# Altium schematic symbol library SamacSys.SchLib: 215 symbols (part 3 of 3)
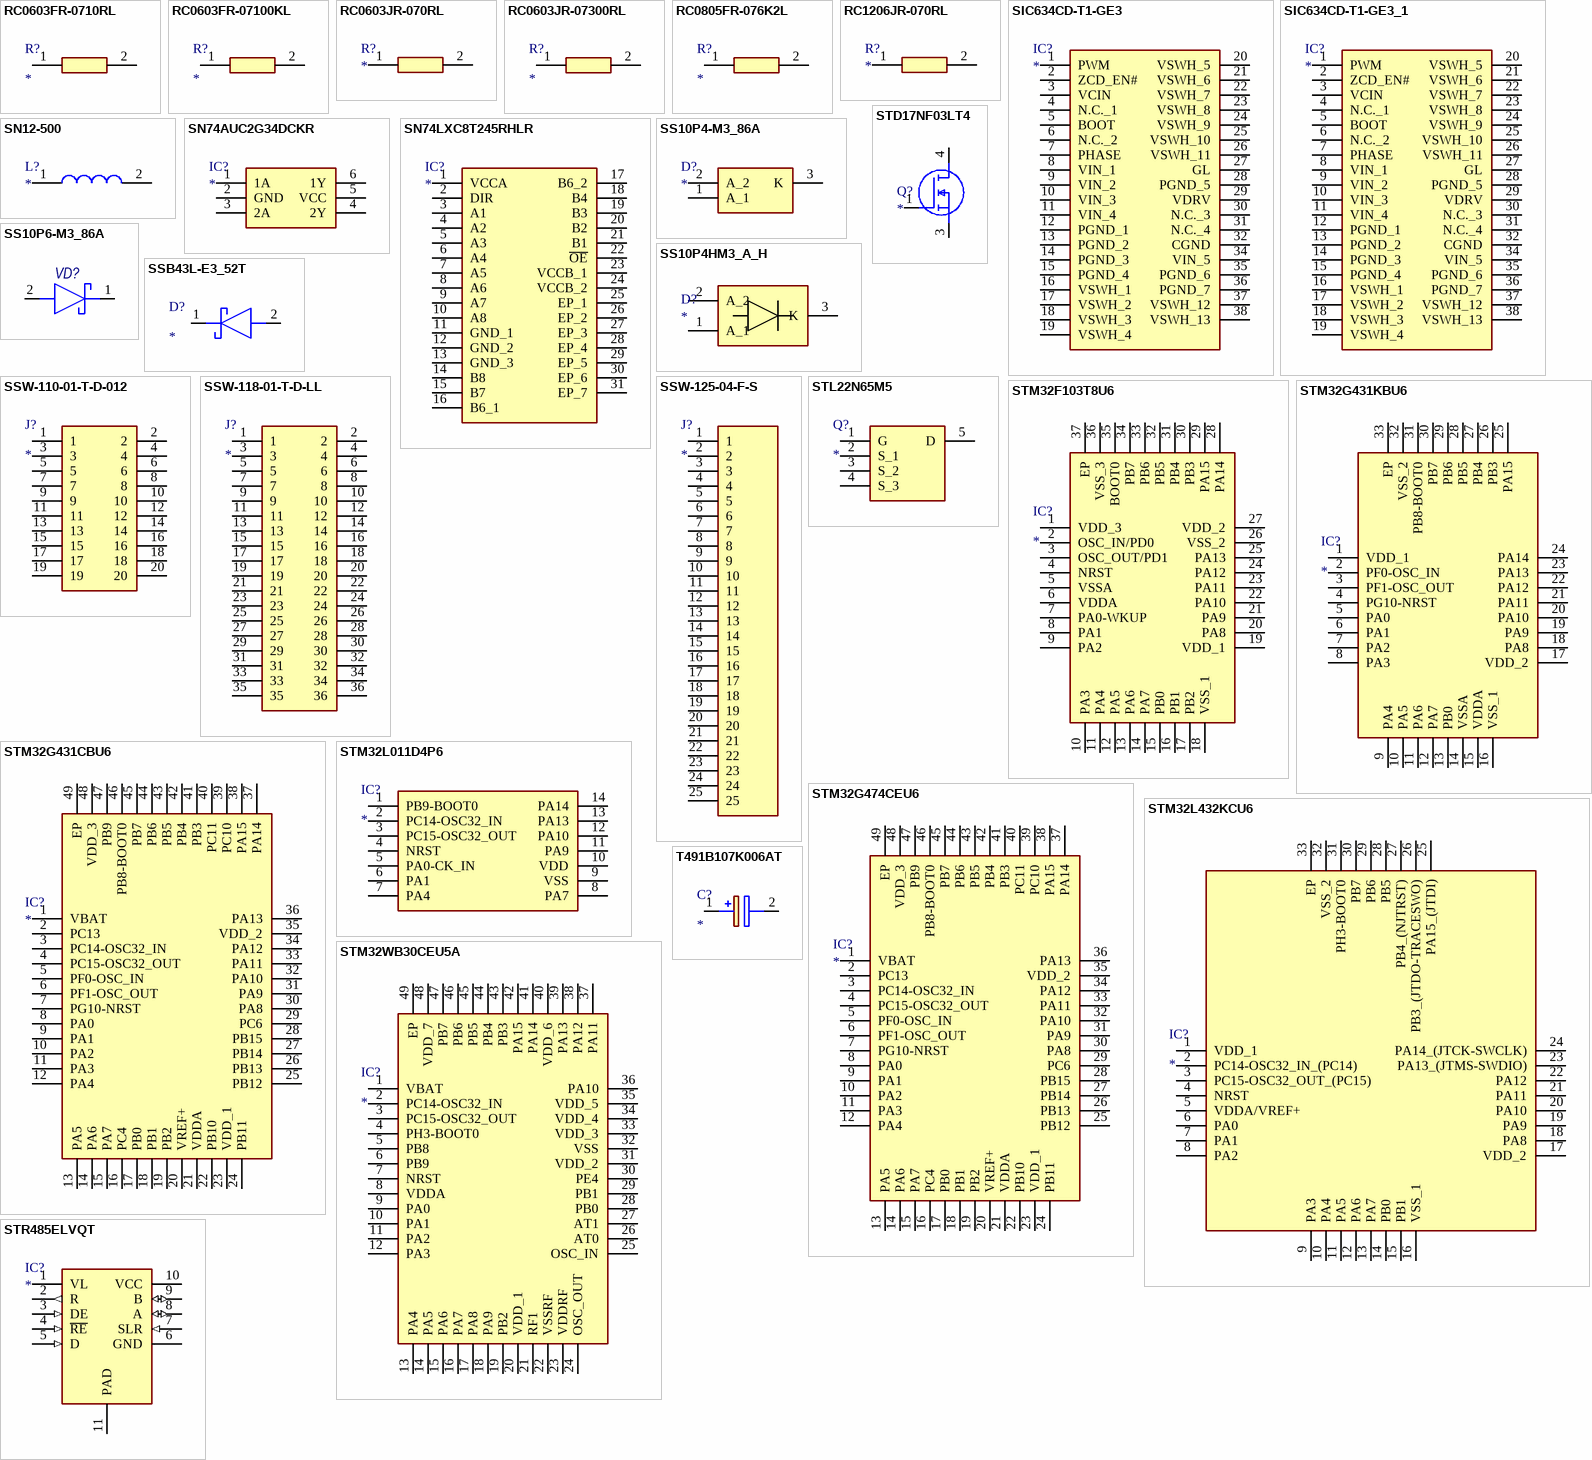
[diagram p7: symbols RC0603FR-0710RL to T491B107K006AT]

## STM32WB30CEU5A
designator IC?
Integrated Circuit; Manufacturer_Name: STMicroelectronics; Manufacturer_Part_Number: STM32WB30CEU5A; Datasheet Link: https://componentsearchengine.com/Datasheets/2/STM32WB30CEU5A.pdf; Height: 0.6mm; Mouser Part Number: 511-STM32WB30CEU5A; Mouser Price/Stock: https://www.mouser.co.uk/ProductDetail/STMicroelectronics/STM32WB30CEU5A?qs=DPoM0jnrROXA98TRXR4iRg%3D%3D; Arrow Part Number: STM32WB30CEU5A; Arrow Price/Stock: https://www.arrow.com/en/products/stm32wb30ceu5a/stmicroelectronics
footprint QFN50P700X700X60-49N-D
pins: 1 VBAT, 2 PC14-OSC32_IN, 3 PC15-OSC32_OUT, 4 PH3-BOOT0, 5 PB8, 6 PB9, 7 NRST, 8 VDDA, 9 PA0, 10 PA1, 11 PA2, 12 PA3, 13 PA4, 14 PA5, 15 PA6, 16 PA7, 17 PA8, 18 PA9, 19 PB2, 20 VDD_1, 21 RF1, 22 VSSRF, 23 VDDRF, 24 OSC_OUT, 25 OSC_IN, 26 AT0, 27 AT1, 28 PB0, 29 PB1, 30 PE4, 31 VDD_2, 32 VSS, 33 VDD_3, 34 VDD_4, 35 VDD_5, 36 PA10, 37 PA11, 38 PA12, 39 PA13, 40 VDD_6, 41 PA14, 42 PA15, 43 PB3, 44 PB4, 45 PB5, 46 PB6, 47 PB7, 48 VDD_7, 49 EP

## STR485ELVQT
designator IC?
Integrated Circuit; Manufacturer_Name: STMicroelectronics; Manufacturer_Part_Number: STR485ELVQT; Datasheet Link: http://uk.rs-online.com/web/p/products/2014489; Height: 1mm; Mouser Part Number: 511-STR485ELVQT; Mouser Price/Stock: https://www.mouser.co.uk/ProductDetail/STMicroelectronics/STR485ELVQT?qs=%252B6g0mu59x7KIlphvmv7pEA%3D%3D; Arrow Part Number: STR485ELVQT; Arrow Price/Stock: https://www.arrow.com/en/products/str485elvqt/stmicroelectronics
footprint SON50P300X300X100-11N
pins: 1 VL (power), 2 R (out), 3 DE (in), 4 ~{RE} (in), 5 D (in), 6 GND (power), 7 SLR (in), 8 A (io), 9 B (io), 10 VCC (power), 11 PAD (power)

## T491B107K006AT
designator C?
Capacitor Polarised; Manufacturer_Name: Kemet; Manufacturer_Part_Number: T491B107K006AT; Datasheet Link: https://connect.kemet.com:7667/gateway/IntelliData-ComponentDocumentation/1.0/download/specsheet/T491B107K006AT; Height: 2.1mm; Mouser Part Number: 80-T491B107K006; Mouser Price/Stock: https://www.mouser.co.uk/ProductDetail/KEMET/T491B107K006AT?qs=0CYHZL%252BGkuR7Fv7IsnkA2g%3D%3D; Arrow Part Number: T491B107K006AT; Arrow Price/Stock: https://www.arrow.com/en/products/t491b107k006at/kemet-corporation
footprint CAPPM3528X210N
pins: 1 +, 2 -

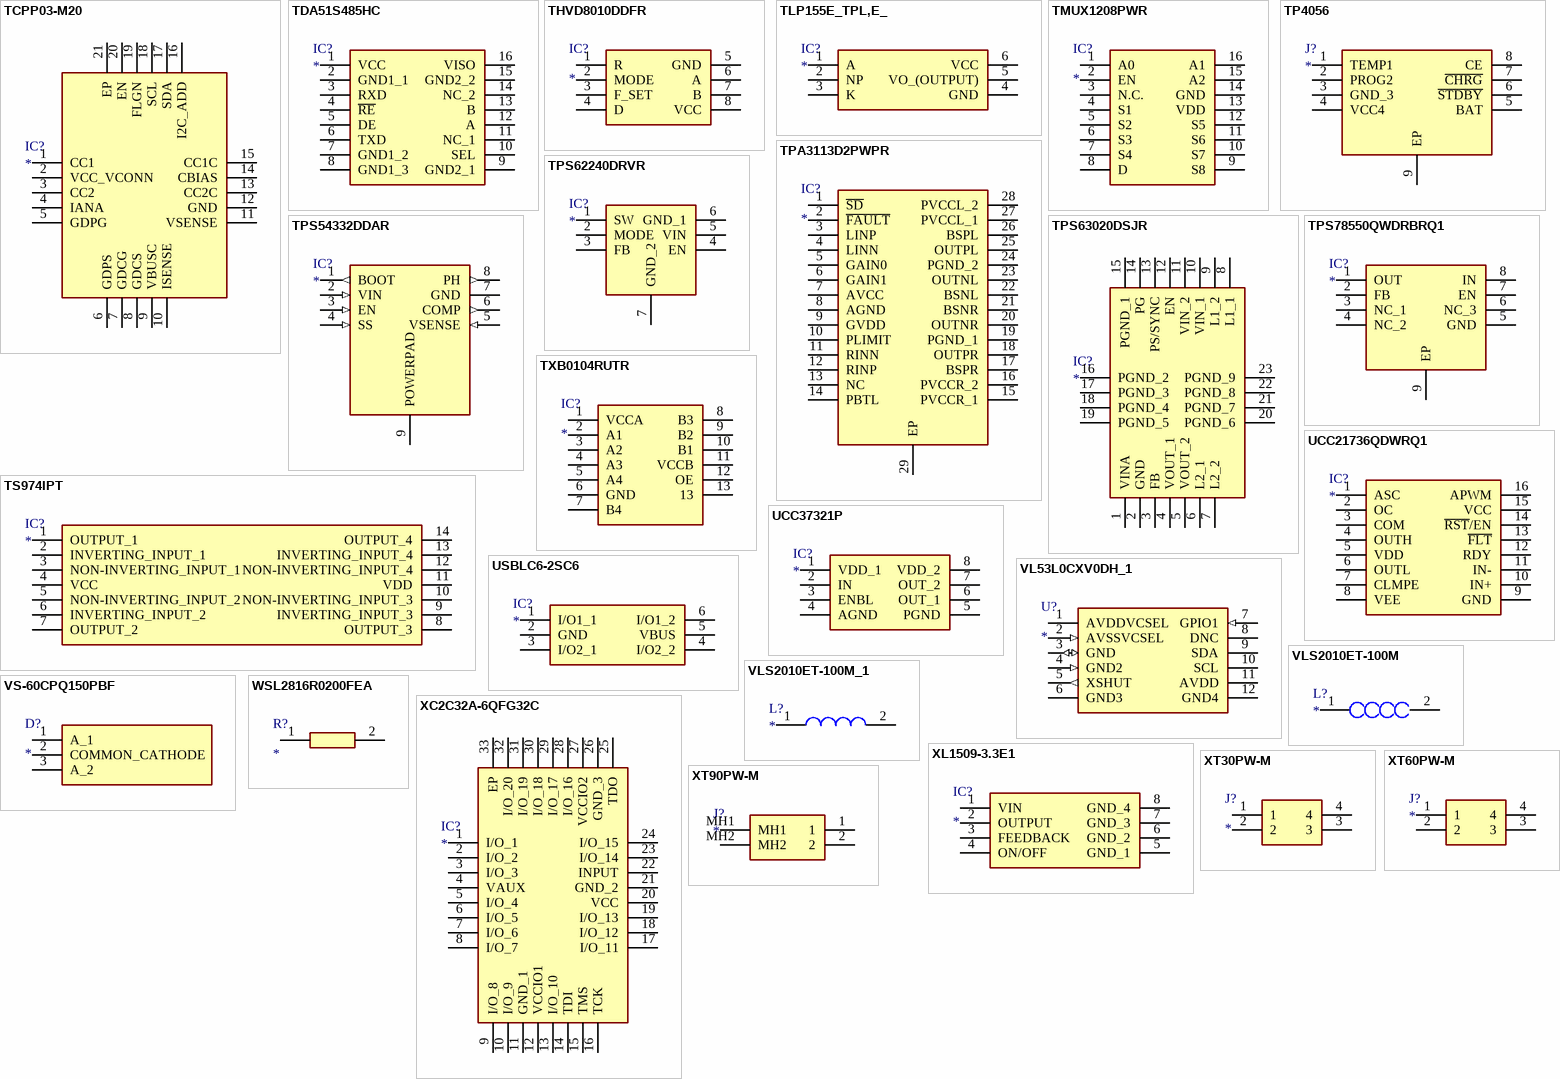
[diagram p5: symbols TCPP03-M20 to XT90PW-M]

## TCPP03-M20
designator IC?
Integrated Circuit; Manufacturer_Name: STMicroelectronics; Manufacturer_Part_Number: TCPP03-M20; Datasheet Link: https://www.st.com/resource/en/datasheet/tcpp03-m20.pdf; Height: 0.8mm; Mouser Part Number: 511-TCPP03-M20; Mouser Price/Stock: https://www.mouser.co.uk/ProductDetail/STMicroelectronics/TCPP03-M20?qs=DRkmTr78QAQkfZe1yn6WXw%3D%3D; Arrow Part Number: TCPP03-M20; Arrow Price/Stock: https://www.arrow.com/en/products/tcpp03-m20/stmicroelectronics?region=nac
footprint QFN50P400X400X80-21N-D
pins: 1 CC1, 2 VCC_VCONN, 3 CC2, 4 IANA, 5 GDPG, 6 GDPS, 7 GDCG, 8 GDCS, 9 VBUSC, 10 ISENSE, 11 VSENSE, 12 GND, 13 CC2C, 14 CBIAS, 15 CC1C, 16 I2C_ADD, 17 SDA, 18 SCL, 19 FLGN, 20 EN, 21 EP

## TDA51S485HC
designator IC?
Integrated Circuit; Manufacturer_Name: Mornsun Power; Manufacturer_Part_Number: TDA51S485HC; Datasheet Link: https://www.mornsun-power.com/html/pdf/TDA51S485HC.html; Height: 2.65mm
footprint SOIC127P1030X265-16N
pins: 1 VCC, 2 GND1_1, 3 RXD, 4 ~{RE}, 5 DE, 6 TXD, 7 GND1_2, 8 GND1_3, 9 GND2_1, 10 SEL, 11 NC_1, 12 A, 13 B, 14 NC_2, 15 GND2_2, 16 VISO

## THVD8010DDFR
designator IC?
Integrated Circuit; Manufacturer_Name: Texas Instruments; Manufacturer_Part_Number: THVD8010DDFR; Datasheet Link: https://www.ti.com/lit/ds/symlink/thvd8010.pdf?ts=1610524313701&ref_url=https%253A%252F%252Fwww.mouser.cn%252F; Height: 1.1mm; Mouser Part Number: 595-THVD8010DDFR; Mouser Price/Stock: https://www.mouser.co.uk/ProductDetail/Texas-Instruments/THVD8010DDFR?qs=T94vaHKWudTtJNDZ8cH6cw%3D%3D; Arrow Part Number: THVD8010DDFR; Arrow Price/Stock: https://www.arrow.com/en/products/thvd8010ddfr/texas-instruments?region=nac
footprint SOT65P280X110-8N
pins: 1 R, 2 MODE, 3 F_SET, 4 D, 5 GND, 6 A, 7 B, 8 VCC

## TLP155E_TPL,E_
designator IC?
Integrated Circuit; Manufacturer_Name: Toshiba; Manufacturer_Part_Number: TLP155E(TPL,E); Datasheet Link: https://toshiba.semicon-storage.com/info/docget.jsp?did=6506&prodName=TLP155E; Height: 2.3mm; Mouser Part Number: 757-TLP155ETPLE; Mouser Price/Stock: https://www.mouser.co.uk/ProductDetail/Toshiba/TLP155ETPLE?qs=sRdS99IVWC930ocIiWYNZA%3D%3D; Arrow Part Number: TLP155E(TPL,E); Arrow Price/Stock: https://www.arrow.com/en/products/tlp155e-tple/toshiba?region=nac
footprint SOIC127P700X230-6N
pins: 1 A, 2 NP, 3 K, 4 GND, 5 VO_(OUTPUT), 6 VCC

## TMUX1208PWR
designator IC?
Integrated Circuit; Manufacturer_Name: Texas Instruments; Manufacturer_Part_Number: TMUX1208PWR; Datasheet Link: http://www.ti.com/lit/gpn/tmux1208; Height: 1.2mm; Mouser Part Number: 595-TMUX1208PWR; Mouser Price/Stock: https://www.mouser.co.uk/ProductDetail/Texas-Instruments/TMUX1208PWR?qs=lc2O%252BfHJPVbYdIGs2%2FdugA%3D%3D; Arrow Part Number: TMUX1208PWR; Arrow Price/Stock: https://www.arrow.com/en/products/tmux1208pwr/texas-instruments
footprint SOP65P640X120-16N
pins: 1 A0, 2 EN, 3 N.C., 4 S1, 5 S2, 6 S3, 7 S4, 8 D, 9 S8, 10 S7, 11 S6, 12 S5, 13 VDD, 14 GND, 15 A2, 16 A1

## TP4056
designator J?
Connector; Manufacturer_Name: NanJing Top Power; Manufacturer_Part_Number: TP4056; Datasheet Link: https://dlnmh9ip6v2uc.cloudfront.net/datasheets/Prototyping/TP4056.pdf; Height: 1.75mm
footprint SOIC127P600X175-9N
pins: 1 TEMP1, 2 PROG2, 3 GND_3, 4 VCC4, 5 BAT, 6 ~{STDBY}, 7 ~{CHRG}, 8 CE, 9 EP

## TPA3113D2PWPR
designator IC?
Integrated Circuit; Manufacturer_Name: Texas Instruments; Manufacturer_Part_Number: TPA3113D2PWPR; Datasheet Link: http://www.ti.com/lit/gpn/tpa3113d2; Height: 1.2mm; Mouser Part Number: 595-TPA3113D2PWPR; Mouser Price/Stock: https://www.mouser.co.uk/ProductDetail/Texas-Instruments/TPA3113D2PWPR?qs=c7TMWs5treShXqm9Ex2%2F3g%3D%3D; Arrow Part Number: TPA3113D2PWPR; Arrow Price/Stock: https://www.arrow.com/en/products/tpa3113d2pwpr/texas-instruments
footprint SOP65P640X120-29N
pins: 1 ~{SD}, 2 ~{FAULT}, 3 LINP, 4 LINN, 5 GAIN0, 6 GAIN1, 7 AVCC, 8 AGND, 9 GVDD, 10 PLIMIT, 11 RINN, 12 RINP, 13 NC, 14 PBTL, 15 PVCCR_1, 16 PVCCR_2, 17 BSPR, 18 OUTPR, 19 PGND_1, 20 OUTNR, 21 BSNR, 22 BSNL, 23 OUTNL, 24 PGND_2, 25 OUTPL, 26 BSPL, 27 PVCCL_1, 28 PVCCL_2, 29 EP

## TPS54332DDAR
designator IC?
Integrated Circuit; Manufacturer_Name: Texas Instruments; Manufacturer_Part_Number: TPS54332DDAR; Datasheet Link: http://www.ti.com/general/docs/suppproductinfo.tsp?distId=26&gotoUrl=http%3A%2F%2Fwww.ti.com%2Flit%2Fgpn%2Ftps54332; Height: 1.7mm; Mouser Part Number: 595-TPS54332DDAR; Mouser Price/Stock: https://www.mouser.co.uk/ProductDetail/Texas-Instruments/TPS54332DDAR?qs=uxmOeTEqoPwe%2F6VQSSs%252BKg%3D%3D; Arrow Part Number: TPS54332DDAR; Arrow Price/Stock: https://www.arrow.com/en/products/tps54332ddar/texas-instruments?region=nac
footprint SOIC127P600X170-9N
pins: 1 BOOT (out), 2 VIN (in), 3 EN (in), 4 SS (in), 5 VSENSE (in), 6 COMP (out), 7 GND, 8 PH (out), 9 POWERPAD

## TPS62240DRVR
designator IC?
Integrated Circuit; Manufacturer_Name: Texas Instruments; Manufacturer_Part_Number: TPS62240DRVR; Datasheet Link: https://datasheet.datasheetarchive.com/originals/distributors/SFDatasheet-6/sf-000128869.pdf; Height: 0.8mm; Mouser Part Number: 595-TPS62240DRVR; Mouser Price/Stock: https://www.mouser.co.uk/ProductDetail/Texas-Instruments/TPS62240DRVR?qs=xL7PkI2RoJ63uAKIlr4SZg%3D%3D; Arrow Part Number: TPS62240DRVR; Arrow Price/Stock: https://www.arrow.com/en/products/tps62240drvr/texas-instruments?region=nac
footprint SON65P200X200X80-7N
pins: 1 SW, 2 MODE, 3 FB, 4 EN, 5 VIN, 6 GND_1, 7 GND_2

## TPS63020DSJR
designator IC?
Integrated Circuit; Manufacturer_Name: Texas Instruments; Manufacturer_Part_Number: TPS63020DSJR; Datasheet Link: https://www.ti.com/lit/ds/symlink/tps63020.pdf?HQS=dis-dk-null-digikeymode-dsf-pf-null-wwe&ts=1623612296427; Height: 1mm; Mouser Part Number: 595-TPS63020DSJR; Mouser Price/Stock: https://www.mouser.co.uk/ProductDetail/Texas-Instruments/TPS63020DSJR?qs=C44r%252BX3hXgL3LjjgiOMWew%3D%3D
footprint TPS63020DSJR
pins: 1 VINA, 2 GND, 3 FB, 4 VOUT_1, 5 VOUT_2, 6 L2_1, 7 L2_2, 8 L1_1, 9 L1_2, 10 VIN_1, 11 VIN_2, 12 EN, 13 PS/SYNC, 14 PG, 15 PGND_1, 16 PGND_2, 17 PGND_3, 18 PGND_4, 19 PGND_5, 20 PGND_6, 21 PGND_7, 22 PGND_8, 23 PGND_9

## TPS78550QWDRBRQ1
designator IC?
Integrated Circuit; Manufacturer_Name: Texas Instruments; Manufacturer_Part_Number: TPS78550QWDRBRQ1; Datasheet Link: https://www.ti.com/lit/gpn/tps785-q1; Height: 1mm; Mouser Part Number: 595-TPS78550QWDRBRQ1; Mouser Price/Stock: https://www.mouser.co.uk/ProductDetail/Texas-Instruments/TPS78550QWDRBRQ1?qs=iLbezkQI%252Bsh%252BWBxkT2XnDQ%3D%3D; Arrow Part Number: TPS78550QWDRBRQ1; Arrow Price/Stock: https://www.arrow.com/en/products/tps78550qwdrbrq1/texas-instruments?region=nac
footprint SON65P300X300X100-9N-D
pins: 1 OUT, 2 FB, 3 NC_1, 4 NC_2, 5 GND, 6 NC_3, 7 EN, 8 IN, 9 EP

## TS974IPT
designator IC?
Integrated Circuit; Manufacturer_Name: STMicroelectronics; Manufacturer_Part_Number: TS974IPT; Datasheet Link: https://www.st.com/resource/en/datasheet/ts974.pdf; Height: 1.2mm; Mouser Part Number: 511-TS974IP; Mouser Price/Stock: https://www.mouser.co.uk/ProductDetail/STMicroelectronics/TS974IPT?qs=ZgWf%252BQbJQ36vJDu%252BPaE7fg%3D%3D; Arrow Part Number: TS974IPT; Arrow Price/Stock: https://www.arrow.com/en/products/ts974ipt/stmicroelectronics?region=nac
footprint SOP65P640X120-14N
pins: 1 OUTPUT_1, 2 INVERTING_INPUT_1, 3 NON-INVERTING_INPUT_1, 4 VCC, 5 NON-INVERTING_INPUT_2, 6 INVERTING_INPUT_2, 7 OUTPUT_2, 8 OUTPUT_3, 9 INVERTING_INPUT_3, 10 NON-INVERTING_INPUT_3, 11 VDD, 12 NON-INVERTING_INPUT_4, 13 INVERTING_INPUT_4, 14 OUTPUT_4

## TXB0104RUTR
designator IC?
Integrated Circuit; Manufacturer_Name: Texas Instruments; Manufacturer_Part_Number: TXB0104RUTR; Datasheet Link: http://www.ti.com/lit/gpn/txb0104; Height: 0.55mm; Mouser Part Number: 595-TXB0104RUTR; Mouser Price/Stock: https://www.mouser.co.uk/ProductDetail/Texas-Instruments/TXB0104RUTR?qs=EuM%2FBx4ov4Sspadi61aUCA%3D%3D; Arrow Part Number: TXB0104RUTR; Arrow Price/Stock: https://www.arrow.com/en/products/txb0104rutr/texas-instruments?region=nac
footprint TXB0104RUTR
pins: 1 VCCA, 2 A1, 3 A2, 4 A3, 5 A4, 6 GND, 7 B4, 8 B3, 9 B2, 10 B1, 11 VCCB, 12 OE, 13

## UCC21736QDWRQ1
designator IC?
Integrated Circuit; Manufacturer_Name: Texas Instruments; Manufacturer_Part_Number: UCC21736QDWRQ1; Datasheet Link: https://www.ti.com/lit/ds/symlink/ucc21736-q1.pdf?ts=1610170637293&ref_url=https%253A%252F%252Feu.mouser.com%252F; Height: 2.65mm; Mouser Part Number: 595-UCC21736QDWRQ1; Mouser Price/Stock: https://www.mouser.co.uk/ProductDetail/Texas-Instruments/UCC21736QDWRQ1?qs=xZ%2FP%252Ba9zWqazxpYJ%2Flne3g%3D%3D; Arrow Part Number: UCC21736QDWRQ1; Arrow Price/Stock: https://www.arrow.com/en/products/ucc21736qdwrq1/texas-instruments?region=nac
footprint SOIC127P1030X265-16N
pins: 1 ASC, 2 OC, 3 COM, 4 OUTH, 5 VDD, 6 OUTL, 7 CLMPE, 8 VEE, 9 GND, 10 IN+, 11 IN-, 12 RDY, 13 ~{FLT}, 14 ~{RST}/EN, 15 VCC, 16 APWM

## UCC37321P
designator IC?
Integrated Circuit; Manufacturer_Name: Texas Instruments; Manufacturer_Part_Number: UCC37321P; Datasheet Link: http://www.ti.com/lit/ds/symlink/ucc37321.pdf; Height: 5.08mm; Mouser Part Number: 595-UCC37321P; Mouser Price/Stock: https://www.mouser.co.uk/ProductDetail/Texas-Instruments/UCC37321P?qs=eJkN62t4xTV9p2kcLLabSg%3D%3D; Arrow Part Number: UCC37321P; Arrow Price/Stock: https://www.arrow.com/en/products/ucc37321p/texas-instruments?region=nac
footprint DIP794W53P254L959H508Q8N
pins: 1 VDD_1, 2 IN, 3 ENBL, 4 AGND, 5 PGND, 6 OUT_1, 7 OUT_2, 8 VDD_2

## USBLC6-2SC6
designator IC?
Integrated Circuit; Manufacturer_Name: STMicroelectronics; Manufacturer_Part_Number: USBLC6-2SC6; Datasheet Link: http://www.st.com/st-web-ui/static/active/en/resource/technical/document/datasheet/CD00050750.pdf; Height: 1.45mm; Mouser Part Number: 511-USBLC6-2SC6; Mouser Price/Stock: https://www.mouser.co.uk/ProductDetail/STMicroelectronics/USBLC6-2SC6?qs=po45yt2pPpu%2FhNIlwQdTlg%3D%3D; Arrow Part Number: USBLC6-2SC6; Arrow Price/Stock: https://www.arrow.com/en/products/usblc6-2sc6/stmicroelectronics?region=nac
footprint SOT95P280X145-6N
pins: 1 I/O1_1, 2 GND, 3 I/O2_1, 4 I/O2_2, 5 VBUS, 6 I/O1_2

## VL53L0CXV0DH_1
designator U?
Undefined or Miscellaneous; Manufacturer_Name: STMicroelectronics; Manufacturer_Part_Number: VL53L0CXV0DH/1; Datasheet Link: http://www.st.com/content/ccc/resource/technical/document/datasheet/group3/b2/1e/33/77/c6/92/47/6b/DM00279086/files/DM00279086.pdf/jcr:content/translations/en.DM00279086.pdf; Mouser Part Number: 511-VL53L0CXV0DH/1; Mouser Price/Stock: https://www.mouser.co.uk/ProductDetail/STMicroelectronics/VL53L0CXV0DH-1?qs=dTJS0cRn7ojtsK3C9%252BTaSw%3D%3D; Arrow Part Number: VL53L0CXV0DH/1; Arrow Price/Stock: https://www.arrow.com/en/products/vl53l0cxv0dh1/stmicroelectronics?region=nac
footprint LGA12_1
pins: 1 AVDDVCSEL (power), 2 AVSSVCSEL (in), 3 GND (io), 4 GND2 (in), 5 XSHUT (out), 6 GND3 (power), 7 GPIO1 (in), 8 DNC (power), 9 SDA (power), 10 SCL (power), 11 AVDD (power), 12 GND4 (power)

## VLS2010ET-100M
designator L?
Inductor; Manufacturer_Name: TDK; Manufacturer_Part_Number: VLS2010ET-100M; Datasheet Link: https://product.tdk.com/system/files/dam/doc/product/inductor/inductor/smd/wdcatalog/withdrawn_inductor_commercial_power_vls2010e_en.pdf; Height: 1mm; Mouser Part Number: 810-VLS2010ET-100M; Mouser Price/Stock: https://www.mouser.com/Search/Refine.aspx?Keyword=810-VLS2010ET-100M; Arrow Part Number: VLS2010ET-100M; Arrow Price/Stock: https://www.arrow.com/en/products/vls2010et-100m/tdk
footprint VLS2010E
pins: 1, 2

## VLS2010ET-100M_1
designator L?
Inductor; Manufacturer_Name: TDK; Manufacturer_Part_Number: VLS2010ET-100M; Datasheet Link: https://product.tdk.com/system/files/dam/doc/product/inductor/inductor/smd/wdcatalog/withdrawn_inductor_commercial_power_vls2010e_en.pdf; Height: 1mm; Mouser Part Number: 810-VLS2010ET-100M; Mouser Price/Stock: https://www.mouser.com/Search/Refine.aspx?Keyword=810-VLS2010ET-100M; Arrow Part Number: VLS2010ET-100M; Arrow Price/Stock: https://www.arrow.com/en/products/vls2010et-100m/tdk
footprint VLS2010E
footprint VLS2016
pins: 1, 2

## VS-60CPQ150PBF
designator D?
Schottky Diode; Manufacturer_Name: Vishay; Manufacturer_Part_Number: VS-60CPQ150PBF; Datasheet Link: http://www.vishay.com/docs/96445/vs-60cpq150hn3.pdf; Height: 5.31mm; Mouser Part Number: 844-60CPQ150PBF; Mouser Price/Stock: http://www.mouser.com/Search/ProductDetail.aspx?qs=CDqwynd4ZNoufHeB%252bazv2A%3d%3d
footprint TO546P531X1558X2499-3P
pins: 1 A_1, 2 COMMON_CATHODE, 3 A_2

## WSL2816R0200FEA
designator R?
Resistor; Manufacturer_Name: Vishay; Manufacturer_Part_Number: WSL2816R0200FEA; Datasheet Link: https://www.mouser.com/datasheet/2/427/wsl-1762032.pdf; Height: 0.889mm; Mouser Part Number: 71-WSL2816R0200FEA; Mouser Price/Stock: https://www.mouser.co.uk/ProductDetail/Vishay-Dale/WSL2816R0200FEA?qs=ViWNInbc%252BeX0rWJFNZzidA%3D%3D
footprint RESC7142X89N
pins: 1, 2

## XC2C32A-6QFG32C
designator IC?
Integrated Circuit; Manufacturer_Name: XILINX; Manufacturer_Part_Number: XC2C32A-6QFG32C; Datasheet Link: http://www.xilinx.com/support/documentation/data_sheets/ds310.pdf; Height: 1mm; Mouser Part Number: 217-XC2C32A-6QFG32C; Mouser Price/Stock: https://www.mouser.co.uk/ProductDetail/Xilinx/XC2C32A-6QFG32C?qs=rrS6PyfT74c4ux1%252B2qsT0A%3D%3D
footprint QFN50P500X500X100-33N-D
pins: 1 I/O_1, 2 I/O_2, 3 I/O_3, 4 VAUX, 5 I/O_4, 6 I/O_5, 7 I/O_6, 8 I/O_7, 9 I/O_8, 10 I/O_9, 11 GND_1, 12 VCCIO1, 13 I/O_10, 14 TDI, 15 TMS, 16 TCK, 17 I/O_11, 18 I/O_12, 19 I/O_13, 20 VCC, 21 GND_2, 22 INPUT, 23 I/O_14, 24 I/O_15, 25 TDO, 26 GND_3, 27 VCCIO2, 28 I/O_16, 29 I/O_17, 30 I/O_18, 31 I/O_19, 32 I/O_20, 33 EP

## XL1509-3.3E1
designator IC?
Integrated Circuit; Manufacturer_Name: XLSEMI; Manufacturer_Part_Number: XL1509-3.3E1; Datasheet Link: https://datasheet.lcsc.com/szlcsc/XLSEMI-XL1509-3-3E1_C74193.pdf; Height: 1.75mm
footprint SOIC127P600X175-8N
pins: 1 VIN, 2 OUTPUT, 3 FEEDBACK, 4 ON/OFF, 5 GND_1, 6 GND_2, 7 GND_3, 8 GND_4

## XT30PW-M
designator J?
Connector; Manufacturer_Name: Amass; Manufacturer_Part_Number: XT30PW-M; Datasheet Link: https://www.tme.eu/sl/Document/ce4077e36b79046da520ca73227e15de/XT30PW%20SPEC.pdf; Height: 5mm
footprint XT30PWM
pins: 1, 2, 3, 4

## XT60PW-M
designator J?
Connector; Manufacturer_Name: Changzou Amass Elec; Manufacturer_Part_Number: XT60PW-M; Datasheet Link: https://www.tme.eu/Document/9b8d0c5eb7094295f3d3112c214d3ade/XT60PW%20SPEC.pdf; Height: 8.4mm
footprint XT60PWM
pins: 1, 2, 3, 4

## XT90PW-M
designator J?
Connector; Manufacturer_Name: Amass; Manufacturer_Part_Number: XT90PW-M; Datasheet Link: https://www.tme.com/Document/7357a049cc8e5ea73e34d2124a313a81/XT90PW.pdf; Height: 10.3mm
footprint XT90PWM
pins: 1, 2, MH1, MH2